# Altium footprint library 750314597.PcbLib: 1 footprints
Each footprint in its own frame and in the unit in brackets; x right, y up, seen from the top. Pads: shape width x height; smd on the part's side, far side on the other; paste and mask are expansions set on the pad; w line width, h text height; cw(c..) or ccw(c..) is an arc to the next point about the centre after c.
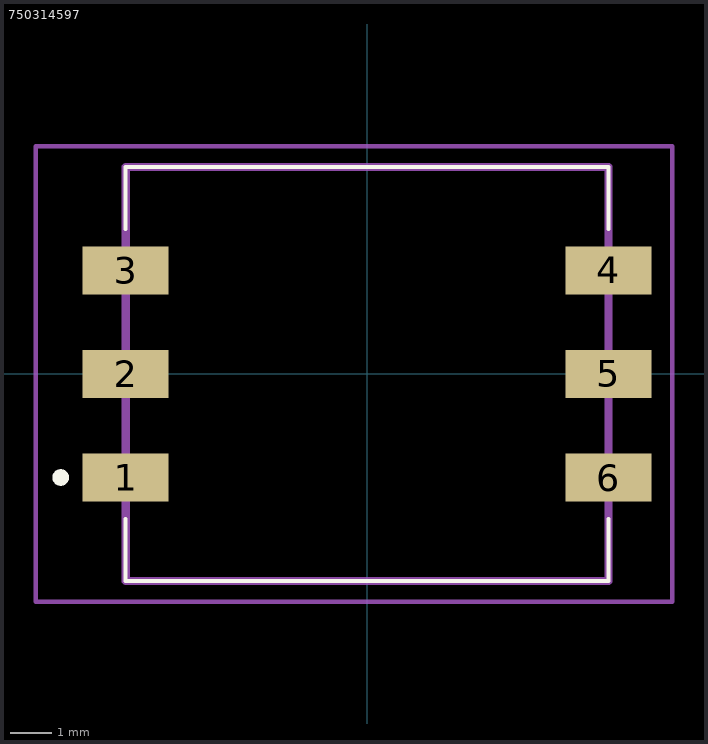
[diagram p0: the footprint, top view; thin cyan lines are the x and y axes]

## 750314597 [mm]
pads (6):
  rect 2.08x1.17 smd: 1(-5.83,-2.5) 2(-5.83,0) 3(-5.83,2.5) 4(5.83,2.5) 5(5.83,0) 6(5.83,-2.5)
Top Overlay:
  lines w0.1: -5.83,-3.5 -5.83,-5 5.83,-5 5.83,-3.5 ; -5.83,3.5 -5.83,5 5.83,5 5.83,3.5
  lines w0.2: -7.4,-2.6 ccw(c-7.4,-2.5) -7.4,-2.4 ; -7.4,-2.6 -7.4,-2.6 ; -7.4,-2.6 cw(c-7.4,-2.5) -7.4,-2.4 ; -7.4,-2.4 -7.4,-2.4
Mechanical 15:
  lines w0.2: -5.83,-5 5.83,-5 5.83,5 -5.83,5 -5.83,-5
Mechanical 20:
  lines w0.1: -8,-5.5 7.37,-5.5 7.37,5.5 -8,5.5 -8,-5.5